# Altium footprint library MyComponents.PcbLib: 2 footprints
Each footprint in its own frame and in the unit in brackets; x right, y up, seen from the top. Pads: shape width x height; smd on the part's side, far side on the other; paste and mask are expansions set on the pad; w line width, h text height; cw(c..) or ccw(c..) is an arc to the next point about the centre after c.
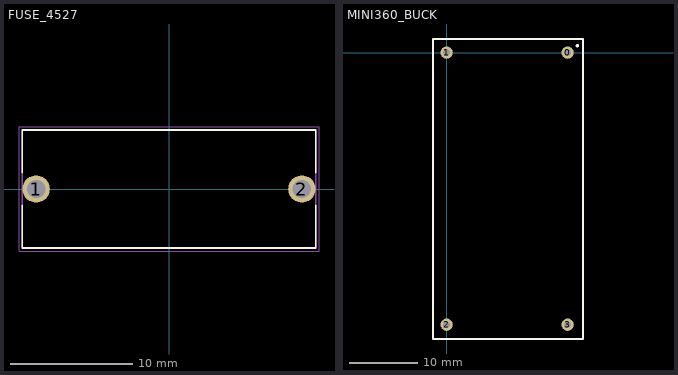
[diagram p0: the footprints below, top view; thin cyan lines are the x and y axes]

## FUSE_4527 [mm]
height 10.8
pads (2):
  round 2.25 hole 1.5: 1(-10.92,0) 2(10.92,0)
Top Overlay:
  lines w0.127: -12.08,-1.32 -12.08,-4.85 12.08,-4.85 12.08,-1.32 ; -12.08,1.32 -12.08,4.85 12.08,4.85 12.08,1.32
Mechanical 13:
  lines w0.127: -12.08,-4.85 -12.08,4.85 12.08,4.85 12.08,-4.85 -12.08,-4.85
Mechanical 15:
  lines w0.05: -12.33,-5.1 -12.33,5.1 12.33,5.1 12.33,-5.1 -12.33,-5.1
3D body "step_temp.STEP": height 10.79, standoff -4.17, extent -12.078,-4.851 12.078,4.851

## MINI360_BUCK [mm]
pads (4):
  round 1.8 hole 1: 0(17.75,0) 1(0,0) 2(0,-39.9) 3(17.75,-39.9)
Top Overlay:
  circle w0.254: c19.177,1.016 r0.127
  lines w0.254: -2,-42 20,-42 20,2 -2,2 -2,-42